# Altium footprint library D-SUB_25_angular_mother.PcbLib: 1 footprints
Each footprint in its own frame and in the unit in brackets; x right, y up, seen from the top. Pads: shape width x height; smd on the part's side, far side on the other; paste and mask are expansions set on the pad; w line width, h text height; cw(c..) or ccw(c..) is an arc to the next point about the centre after c.
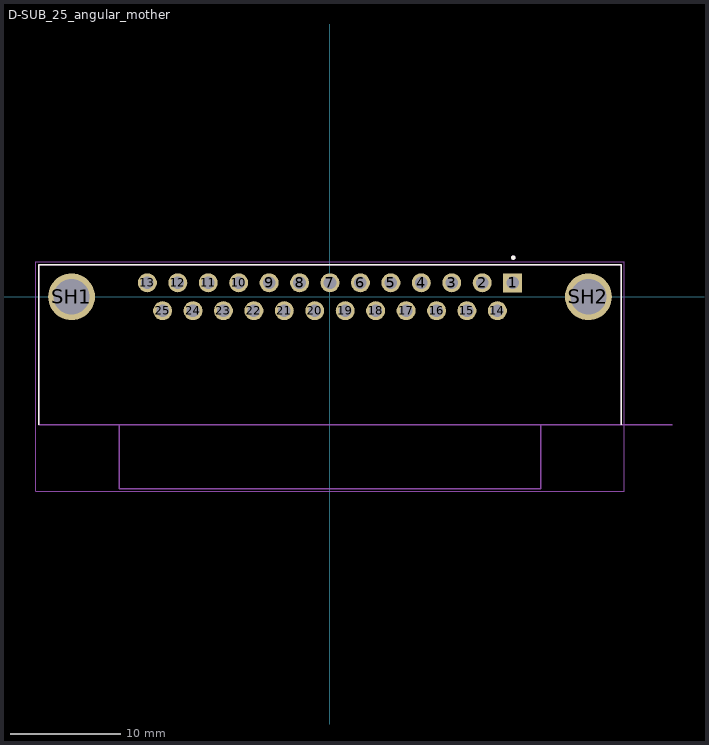
[diagram p0: the footprint, top view; thin cyan lines are the x and y axes]

## D-SUB_25_angular_mother [mm]
pads (27):
  rect 1.725x1.725 / inner round 1.725 / far side rect 1.725x1.725 hole 1.15: 1(16.62,1.27)
  round 1.725 hole 1.15: 2(13.85,1.27) 3(11.08,1.27) 4(8.31,1.27) 5(5.54,1.27) 6(2.77,1.27) 7(0,1.27) 8(-2.77,1.27) 9(-5.54,1.27) 10(-8.31,1.27) 11(-11.08,1.27) 12(-13.85,1.27) 13(-16.62,1.27) 14(15.235,-1.27) 15(12.465,-1.27) 16(9.695,-1.27) 17(6.925,-1.27) 18(4.155,-1.27) 19(1.385,-1.27) 20(-1.385,-1.27) 21(-4.155,-1.27) 22(-6.925,-1.27) 23(-9.695,-1.27) 24(-12.465,-1.27) 25(-15.235,-1.27)
  round 4.266 hole 3.25: SH1(-23.52,0) SH2(23.52,0)
Top Overlay:
  circle w0.2: c16.68,3.561 r0.1
  lines w0.127: -26.52,-11.67 -26.52,2.93 26.52,2.93 26.52,-11.67
Mechanical 13:
  circle w0.2: c16.68,3.561 r0.1
  lines w0.127: 31.14,-11.67 26.52,-11.67 ; -19.19,-11.67 -26.52,-11.67 -26.52,2.93 26.52,2.93 26.52,-11.67 ; -19.19,-11.67 -19.19,-17.47 19.19,-17.47 19.19,-11.67 ; -19.19,-11.67 19.19,-11.67 ; 19.19,-11.67 26.52,-11.67
  text "PCB EDGE" at 27.33,-11.303 h1.27
Mechanical 15:
  lines w0.05: -26.77,-17.72 -26.77,3.18 26.77,3.18 26.77,-17.72 -26.77,-17.72
3D body "step_temp.STEP": height 13.48, standoff -3.8, extent -26.52,-17.47 26.52,2.93